# Altium schematic symbol library BSS84AKS.SchLib: 1 symbol
Pins are listed as number, name and electrical type; pins without a type are passive.

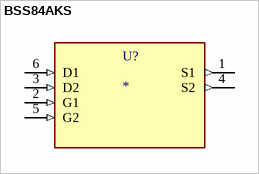
[diagram p0: symbol BSS84AKS]

## BSS84AKS
designator U?
MUN5214DW1T1G / 2 npn pre biased; MF: MUN5214DW1T1G; MP: MUN5214DW1T1G; Package: SOT-363 NXP Semiconductors; Value: *
footprint SOT65P210X110-6N
pins: 1 S1 (out), 2 G1 (in), 3 D2 (in), 4 S2 (out), 5 G2 (in), 6 D1 (in)